# Altium schematic symbol library molex-0545.SchLib: 2 symbols
Pins are listed as number, name and electrical type; pins without a type are passive.

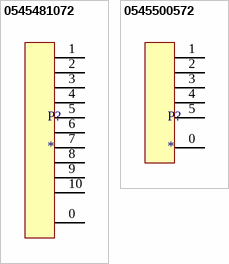
[diagram p0: symbols 0545481072 to 0545500572]

## 0545481072
designator P?
CONN FFC BOTTOM 10POS 0.5MM R/A
pins: 0 (power), 1 (power), 2 (power), 3 (power), 4 (power), 5 (power), 6 (power), 7 (power), 8 (power), 9 (power), 10 (power)

## 0545500572
designator P?
CONN FFC FPC TOP 5POS 0.5MM R/A
pins: 0 (power), 1 (power), 2 (power), 3 (power), 4 (power), 5 (power)